# Altium footprint library PcbLib2.PcbLib: 58 footprints (part 3 of 4)
Each footprint in its own frame and in the unit in brackets; x right, y up, seen from the top. Pads: shape width x height; smd on the part's side, far side on the other; paste and mask are expansions set on the pad; w line width, h text height; cw(c..) or ccw(c..) is an arc to the next point about the centre after c.
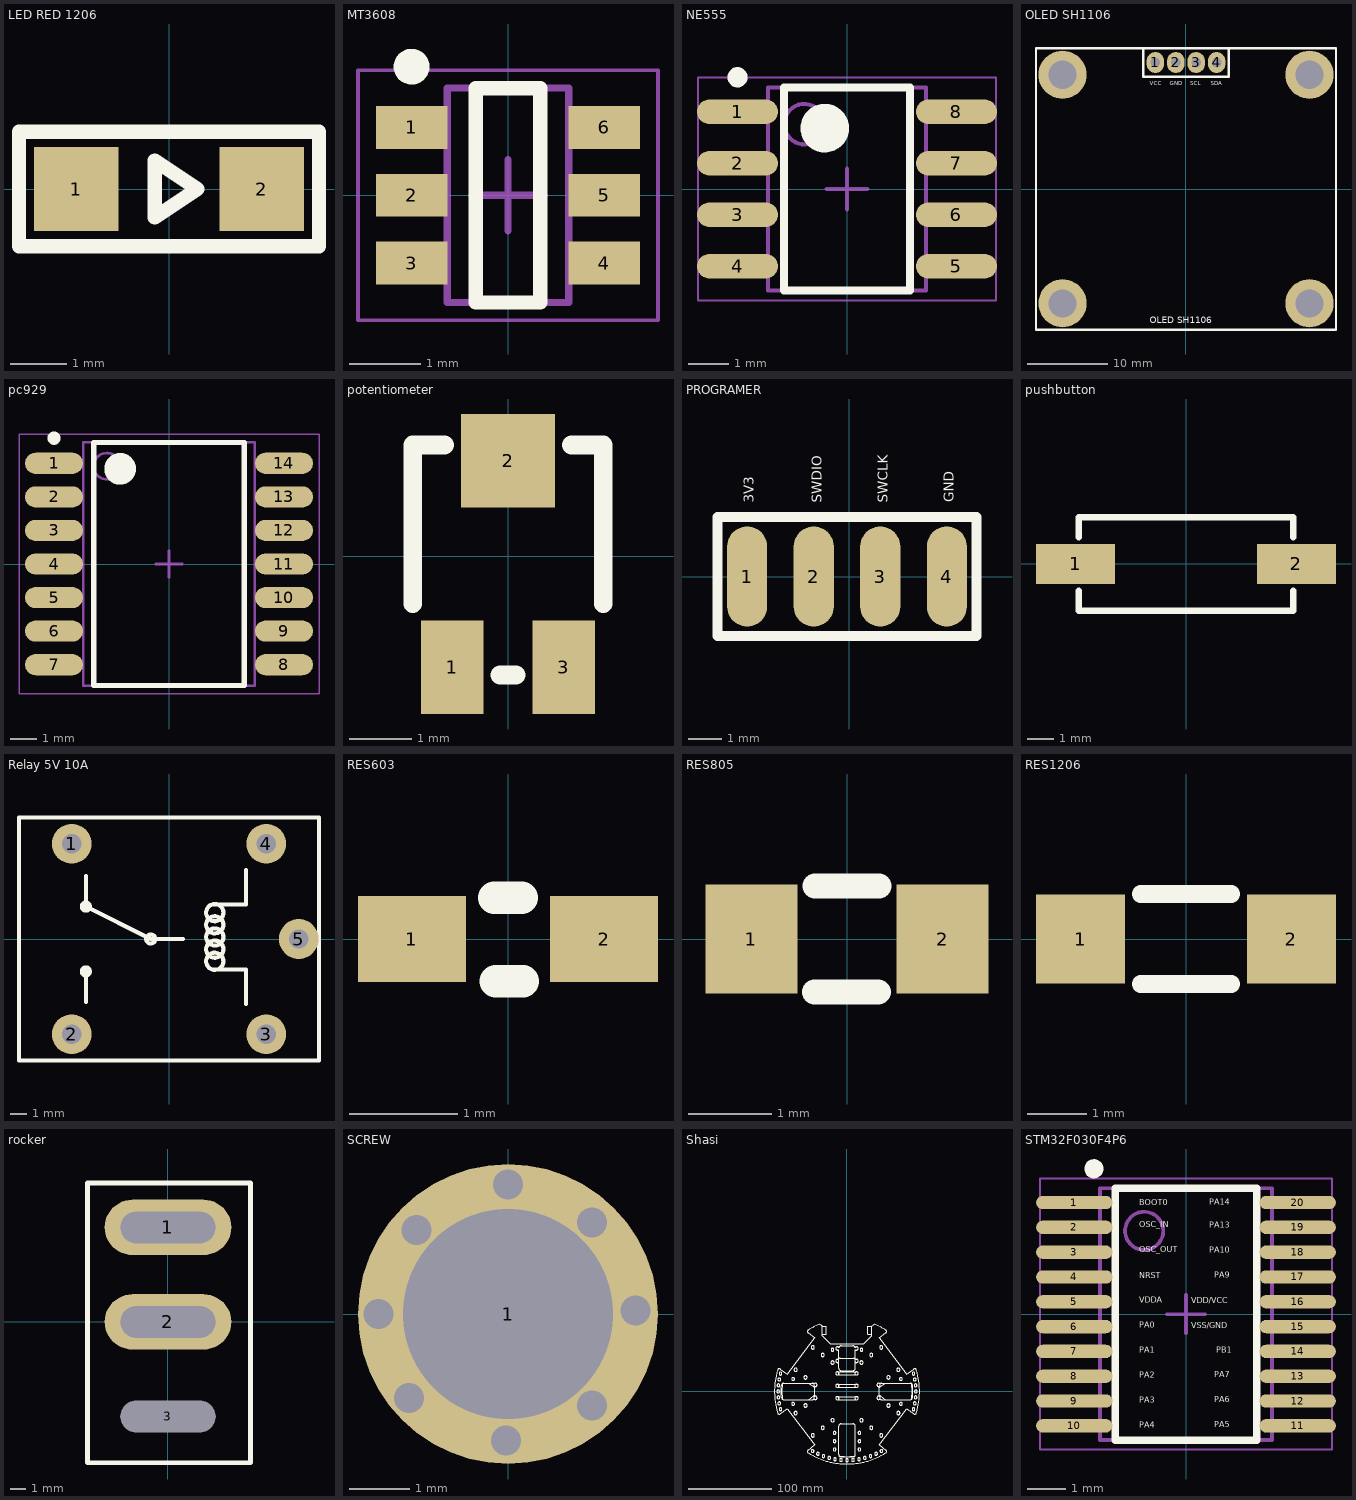
[diagram p2: the footprints below, top view; thin cyan lines are the x and y axes]

## LED RED 1206 [mm]
pads (2):
  rect 1.5x1.5 smd: 1(-1.651,0) 2(1.651,0)
Top Overlay:
  lines w0.254: -2.667,-1.016 -2.667,1.016 2.667,1.016 2.667,-1.016 -2.667,-1.016 ; -0.254,-0.508 -0.254,0.508 0.508,0 -0.254,-0.508
3D body "LED_1206_Red.stp": height 0.9, standoff 0, extent -1.632,-0.832 1.638,0.818

## MT3608 [mm] "SOT23, 6-Leads, Body 2.90x2.80mm, Pitch 0.95mm, IPC Medium Density"
height 1.45
pads (6):
  rect 1x0.6 smd: 1(-1.35,0.95) 2(-1.35,0) 3(-1.35,-0.95) 4(1.35,-0.95) 5(1.35,0) 6(1.35,0.95)
Top Overlay:
  circle w0.25: c-1.35,1.8 r0.125
  lines w0.2: -0.45,-1.5 0.45,-1.5 0.45,1.5 -0.45,1.5 -0.45,-1.5
Mechanical 13:
  lines w0.1: -0.85,-1.5 -0.85,1.5 0.85,1.5 0.85,-1.5 -0.85,-1.5
Mechanical 15:
  lines w0.05: -2.1,-1.75 -2.1,1.75 2.1,1.75 2.1,-1.75 -2.1,-1.75
  lines w0.1: -0.5,0 0.5,0 ; 0,-0.5 0,0.5
3D body "SOT95P280X145-6N.step": height 1.45, standoff 0, extent -1.5,-1.5 1.5,1.5

## NE555 [mm] "SOIC, 8-Leads, Body 4.90x3.85mm, Pitch 1.27mm, IPC Medium Density"
height 1.45
pads (8):
  oval 2x0.6 smd: 1(-2.7,1.905) 2(-2.7,0.635) 3(-2.7,-0.635) 4(-2.7,-1.905) 5(2.7,-1.905) 6(2.7,-0.635) 7(2.7,0.635) 8(2.7,1.905)
Top Overlay:
  circle w0.25: c-2.7,2.755 r0.125
  circle w0.6: c-0.55,1.5 r0.3
  lines w0.2: -1.55,-2.5 -1.55,2.5 1.55,2.5 1.55,-2.5 -1.55,-2.5
Mechanical 13:
  circle w0.1: c-1.05,1.6 r0.5
  lines w0.1: -1.95,-2.5 -1.95,2.5 1.95,2.5 1.95,-2.5 -1.95,-2.5
Mechanical 15:
  lines w0.05: -3.675,-2.75 -3.675,2.75 3.675,2.75 3.675,-2.75 -3.675,-2.75
  lines w0.1: -0.5,0 0.5,0 ; 0,-0.5 0,0.5
3D body "SOIC127P600X145-8N.step": height 1.45, standoff 0, extent -3,-2.5 3,2.5

## OLED SH1106 [mm]
pads (8):
  oval 2.2x2.6 hole 1.2: 1(-3.81,15.748) 2(-1.27,15.748) 3(1.27,15.748) 4(3.81,15.748)
  round 6 hole 3.5: ""(-15.367,14.224) ""(-15.365,-14.23) ""(15.367,14.224) ""(15.369,-14.23)
Top Overlay:
  lines w0.3: -5.334,17.526 -5.334,13.97 5.334,13.97 5.334,17.526 ; -18.669,-17.526 -18.669,17.526 18.669,17.526 18.669,-17.526 -18.669,-17.526
  text "VCC" at -4.535,12.927 h0.5
  text "GND" at -1.995,12.927 h0.5
  text "SCL" at 0.545,12.927 h0.5
  text "SDA" at 3.085,12.927 h0.5
  text "OLED SH1106" at -4.513,-16.711 h0.8
3D body "Oled SH1106.SLDPRT": height 9.6, standoff -2.5, extent -18,-17 18,17

## pc929 [mm] "SOIC, 14-Leads, Body 9.22x6.50mm, Pitch 1.27mm, IPC Medium Density"
height 3.5
pads (14):
  oval 2.2x0.8 smd: 1(-4.35,3.81) 2(-4.35,2.54) 3(-4.35,1.27) 4(-4.35,0) 5(-4.35,-1.27) 6(-4.35,-2.54) 7(-4.35,-3.81) 8(4.35,-3.81) 9(4.35,-2.54) 10(4.35,-1.27) 11(4.35,0) 12(4.35,1.27) 13(4.35,2.54) 14(4.35,3.81)
Top Overlay:
  circle w0.25: c-4.35,4.76 r0.125
  circle w0.6: c-1.85,3.6 r0.3
  lines w0.2: -2.85,-4.6 -2.85,4.6 2.85,4.6 2.85,-4.6 -2.85,-4.6
Mechanical 13:
  circle w0.1: c-2.35,3.7 r0.5
  lines w0.1: -3.25,-4.6 -3.25,4.6 3.25,4.6 3.25,-4.6 -3.25,-4.6
Mechanical 15:
  lines w0.05: -5.675,-4.9 -5.675,4.9 5.675,4.9 5.675,-4.9 -5.675,-4.9
  lines w0.1: -0.5,0 0.5,0 ; 0,-0.5 0,0.5
3D body "SOIC127P1000X350-14N.step": height 3.5, standoff 0, extent -5,-4.6 5,4.6

## potentiometer [mm]
pads (3):
  rect 1x1.5 smd: 1(-0.889,-1.778) 3(0.889,-1.778)
  rect 1.5x1.5 smd: 2(0,1.524)
Top Overlay:
  lines w0.3: -1.524,-0.762 -1.524,1.778 -1.016,1.778 ; -0.127,-1.905 0.127,-1.905 ; 1.016,1.778 1.524,1.778 1.524,-0.762
3D body "EVM-3E.STEP": height 1.62, standoff 0, extent -1.55,-1.95 1.55,1.85

## PROGRAMER [mm]
pads (4):
  oval 1.2x3 smd: 1(-3.048,0) 2(-1.058,0) 3(0.931,0) 4(2.921,0)
Top Overlay:
  lines w0.3: -3.937,-1.778 3.81,-1.778 3.81,1.778 -3.937,1.778 -3.937,-1.778
  text "3V3" at -2.844,2.209 h0.3
  text "SWDIO" at -0.812,2.209 h0.3
  text "SWCLK" at 1.157,2.2 h0.3
  text "GND" at 3.124,2.226 h0.3

## pushbutton [mm]
pads (2):
  rect 3x1.5 smd: 1(-4.191,0) 2(4.191,0)
Top Overlay:
  lines w0.254: -4.065,-1.017 -4.065,-1.779 4.063,-1.779 4.063,-1.017 ; -4.064,1.016 -4.064,1.778 4.064,1.778 4.064,1.016
3D body "SMD push.SLDPRT": height 4.25, standoff -0.13, extent -4.174,-1.82 4.174,1.82

## Relay 5V 10A [mm]
pads (5):
  round 2.5 hole 1.2: 1(-6.096,5.969) 2(-6.096,-5.969) 3(6.096,-5.969) 4(6.096,5.969) 5(8.128,0)
Top Overlay:
  circle w0.254: c-5.207,-2.032 r0.254
  circle w0.254: c-5.207,2.032 r0.254
  circle w0.254: c-1.143,0 r0.284
  circle w0.254: c2.868,1.651 r0.539
  circle w0.254: c2.868,0.889 r0.539
  circle w0.254: c2.868,0.127 r0.539
  circle w0.254: c2.868,-0.635 r0.539
  circle w0.254: c2.868,-1.397 r0.539
  lines w0.254: -5.207,-3.937 -5.207,-2.032 ; -5.207,3.937 -5.207,2.032 -1.143,0 0.889,0 ; 2.794,-1.905 4.826,-1.905 4.826,-4.064 ; 2.794,2.159 4.826,2.159 4.826,4.318 ; -9.398,-7.62 9.398,-7.62 9.398,7.62 -9.398,7.62 -9.398,-7.62
3D body "RELAY_SRD-05VDC.STEP": height 15.9, standoff -2.8, extent -9.6,-7.8 9.6,7.8

## RES603 [mm]
pads (2):
  rect 1x0.8 smd: 1(-0.889,0) 2(0.889,0)
Top Overlay:
  lines w0.3: -0.127,0.381 0.127,0.381 ; -0.115,-0.393 0.139,-0.393
3D body "R103_0603.stp": height 0.48, standoff 0, extent -0.775,-0.425 0.775,0.425

## RES805 [mm]
pads (2):
  rect 1.1x1.3 smd: 1(-1.143,0) 2(1.143,0)
Top Overlay:
  lines w0.3: -0.388,-0.635 0.374,-0.635 ; -0.381,0.635 0.381,0.635
3D body "SMD_0805.STEP": height 0.48, standoff -0.02, extent -1,-0.6 1,0.6

## RES1206 [mm]
pads (2):
  rect 1.5x1.5 smd: 1(-1.778,0) 2(1.778,0)
Top Overlay:
  lines w0.3: -0.762,-0.759 0.762,-0.759 ; -0.762,0.762 0.762,0.762
3D body "R1206.SLDPRT": height 0.53, standoff -0.03, extent -1.575,-0.825 1.575,0.825

## rocker [mm]
pads (3):
  oval 8x3.5 hole 2 slot 6 at 0 deg: 1(0,5.969) 2(0,0)
  oval 5x1 hole 2 slot 6 at 0 deg: 3(0,-5.969)
Top Overlay:
  lines w0.3: -5.08,-8.89 5.207,-8.89 5.207,8.763 -5.08,8.763 -5.08,-8.89
3D body "RockerSwitch.STEP": height 16.8, standoff -8, extent -7.4,-10.5 7.4,10.5

## SCREW [mm]
pads (9):
  round 5 hole 3.5: 1(0,0)
  round 0 hole 0.5: ""(-2.159,0) ""(-1.651,-1.397) ""(-1.524,1.397) ""(-0.031,-2.11) ""(0,2.159) ""(1.397,-1.524) ""(1.397,1.524) ""(2.128,0.059)

## Shasi [mm]
Top Overlay:
  drawing of 186 lines, arcs and shapes, not listed

## STM32F030F4P6 [mm] "TSOP, 20-Leads, Body 6.50x4.40mm, Pitch 0.65mm, IPC Medium Density"
height 1.2
pads (20):
  oval 2x0.35 smd: 1(-2.925,2.925) 2(-2.925,2.275) 3(-2.925,1.625) 4(-2.925,0.975) 5(-2.925,0.325) 6(-2.925,-0.325) 7(-2.925,-0.975) 8(-2.925,-1.625) 9(-2.925,-2.275) 10(-2.925,-2.925) 11(2.925,-2.925) 12(2.925,-2.275) 13(2.925,-1.625) 14(2.925,-0.975) 15(2.925,-0.325) 16(2.925,0.325) 17(2.925,0.975) 18(2.925,1.625) 19(2.925,2.275) 20(2.925,2.925)
Top Overlay:
  circle w0.25: c-2.413,3.81 r0.125
  lines w0.2: -1.85,-3.3 1.85,-3.3 1.85,3.3 -1.85,3.3 -1.85,-3.3
  text "VDD/VCC" at 0.14,0.282 h0.15
  text "BOOT0" at -1.225,2.853 h0.15
  text "OSC_IN" at -1.225,2.278 h0.15
  text "OSC_OUT" at -1.225,1.625 h0.15
  text "NRST" at -1.225,0.946 h0.15
  text "VDDA" at -1.225,0.293 h0.15
  text "PA0" at -1.225,-0.36 h0.15
  text "PA1" at -1.225,-1.013 h0.15
  text "PA2" at -1.225,-1.666 h0.15
  text "PA3" at -1.225,-2.319 h0.15
  text "PA4" at -1.225,-2.972 h0.15
  text "PA14" at 0.615,2.861 h0.15
  text "PA13" at 0.615,2.262 h0.15
  text "PA10" at 0.615,1.608 h0.15
  text "PA9" at 0.74,0.955 h0.15
  text "VSS/GND" at 0.14,-0.37 h0.15
  text "PB1" at 0.79,-1.005 h0.15
  text "PA7" at 0.74,-1.658 h0.15
  text "PA6" at 0.74,-2.311 h0.15
  text "PA5" at 0.74,-2.964 h0.15
Mechanical 13:
  circle w0.1: c-1.096,2.183 r0.5
  lines w0.1: -2.25,-3.3 2.25,-3.3 2.25,3.3 -2.25,3.3 -2.25,-3.3
Mechanical 15:
  lines w0.05: -3.825,-3.55 3.825,-3.55 3.825,3.55 -3.825,3.55 -3.825,-3.55
  lines w0.1: -0.5,0 0.5,0 ; 0,-0.5 0,0.5
3D body "TSOP65P630X120-20N.step": height 1.2, standoff 0, extent -3.15,-3.3 3.15,3.3